# Altium footprint library B2PS-VHLFSN.PcbLib: 1 footprints
Each footprint in its own frame and in the unit in brackets; x right, y up, seen from the top. Pads: shape width x height; smd on the part's side, far side on the other; paste and mask are expansions set on the pad; w line width, h text height; cw(c..) or ccw(c..) is an arc to the next point about the centre after c.
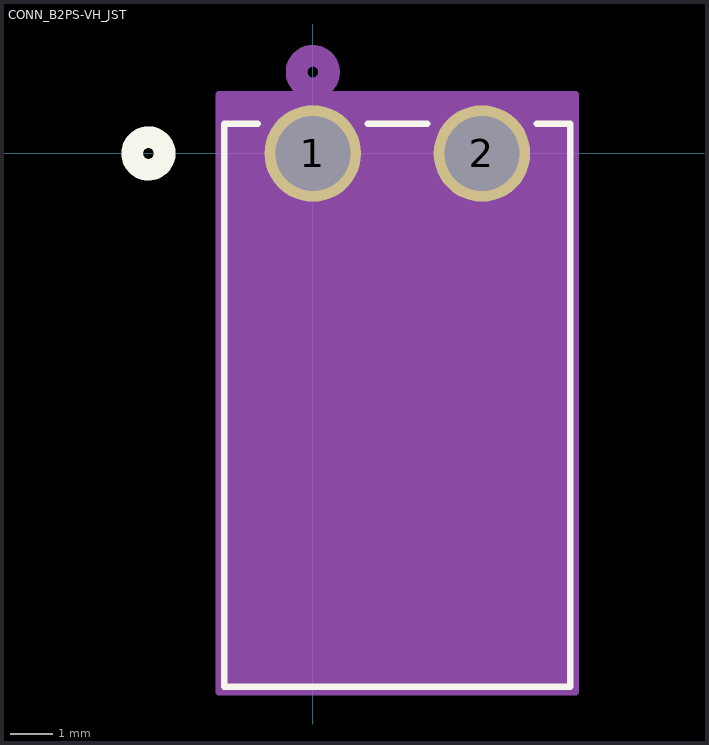
[diagram p0: the footprint, top view; thin cyan lines are the x and y axes]

## CONN_B2PS-VH_JST [mil]
pads (2):
  round 89 / inner round 60 / far side round 89 hole 69 paste-44.5 mask+0: 1(0,0) 2(155.91,0)
Top Overlay:
  circle w20: c-151.55,0 r15
  lines w6: -50.64,27.44 -81.55,27.44 -81.55,-491.56 237.45,-491.56 237.45,27.44 206.55,27.44 ; 50.64,27.44 105.26,27.44
Bottom Overlay:
  circle w20: c-151.55,0 r15
Mechanical 13:
  circle w20: c0,75 r15
  lines w1: -76.55,-486.56 232.45,-486.56 232.45,22.44 -76.55,22.44 -76.55,-486.56
Mechanical 15:
  region: 242.45,54.5 -86.55,54.5 -86.55,-496.56 242.45,-496.56
  lines w6: -86.55,-496.56 -86.55,54.5 242.45,54.5 242.45,-496.56 -86.55,-496.56